# Altium integrated library 2041119-1.IntLib: 1 symbol
Pins are listed as number, name and electrical type; pins without a type are passive.

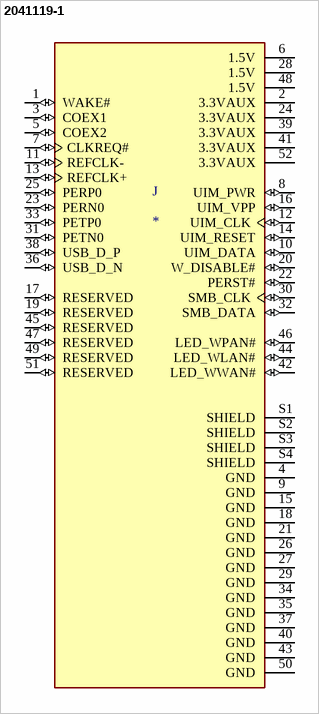
[diagram p0: symbol 2041119-1]

## 2041119-1
designator J
Conn Mini PCI Express Card Edge SKT 52 POS Solder RA SMD T/R; MP: 2041119-1; Product_Type: Connector; Centerline_Pitch: .8 mm[.031 in]; Number_of_Positions: 52; MF: TE Connectivity; Package: None; TE_purchase_URL: https://www.te.com/usa-en/product-2041119-1.html?te_bu=Cor&te_type=disp&te_campaign=seda_glo_cor-seda-global-disp-prtnr-fy19-seda-model-bom-cta_sma-317_1&elqCampaignId=32493; SnapEDA_Link: https://www.snapeda.com/parts/2041119-1/TE%20Connectivity%20AMP%20Connectors/view-part/804027/?ref=snap; Availability: Unavailable; Price: None; Value: *
footprint TE_2041119-1
pins: 1 WAKE# (io), 2 3.3VAUX (power), 3 COEX1 (io), 4 GND (power), 5 COEX2 (io), 6 1.5V (power), 7 CLKREQ# (io), 8 UIM_PWR (io), 9 GND (power), 10 UIM_DATA (io), 11 REFCLK- (io), 12 UIM_CLK (io), 13 REFCLK+ (io), 14 UIM_RESET (io), 15 GND (power), 16 UIM_VPP (io), 17 RESERVED (io), 18 GND (power), 19 RESERVED (io), 20 W_DISABLE# (io), 21 GND (power), 22 PERST# (io), 23 PERN0 (io), 24 3.3VAUX (power), 25 PERP0 (io), 26 GND (power), 27 GND (power), 28 1.5V (power), 29 GND (power), 30 SMB_CLK (io), 31 PETN0 (io), 32 SMB_DATA (io), 33 PETP0 (io), 34 GND (power), 35 GND (power), 36 USB_D_N (io), 37 GND (power), 38 USB_D_P (io), 39 3.3VAUX (power), 40 GND (power), 41 3.3VAUX (power), 42 LED_WWAN# (io), 43 GND (power), 44 LED_WLAN# (io), 45 RESERVED (io), 46 LED_WPAN# (io), 47 RESERVED (io), 48 1.5V (power), 49 RESERVED (io), 50 GND (power), 51 RESERVED (io), 52 3.3VAUX (power), S1 SHIELD (power), S2 SHIELD (power), S3 SHIELD (power), S4 SHIELD (power)